# Altium footprint library RF.PcbLib: 28 footprints (part 2 of 2)
Each footprint in its own frame and in the unit in brackets; x right, y up, seen from the top. Pads: shape width x height; smd on the part's side, far side on the other; paste and mask are expansions set on the pad; w line width, h text height; cw(c..) or ccw(c..) is an arc to the next point about the centre after c.
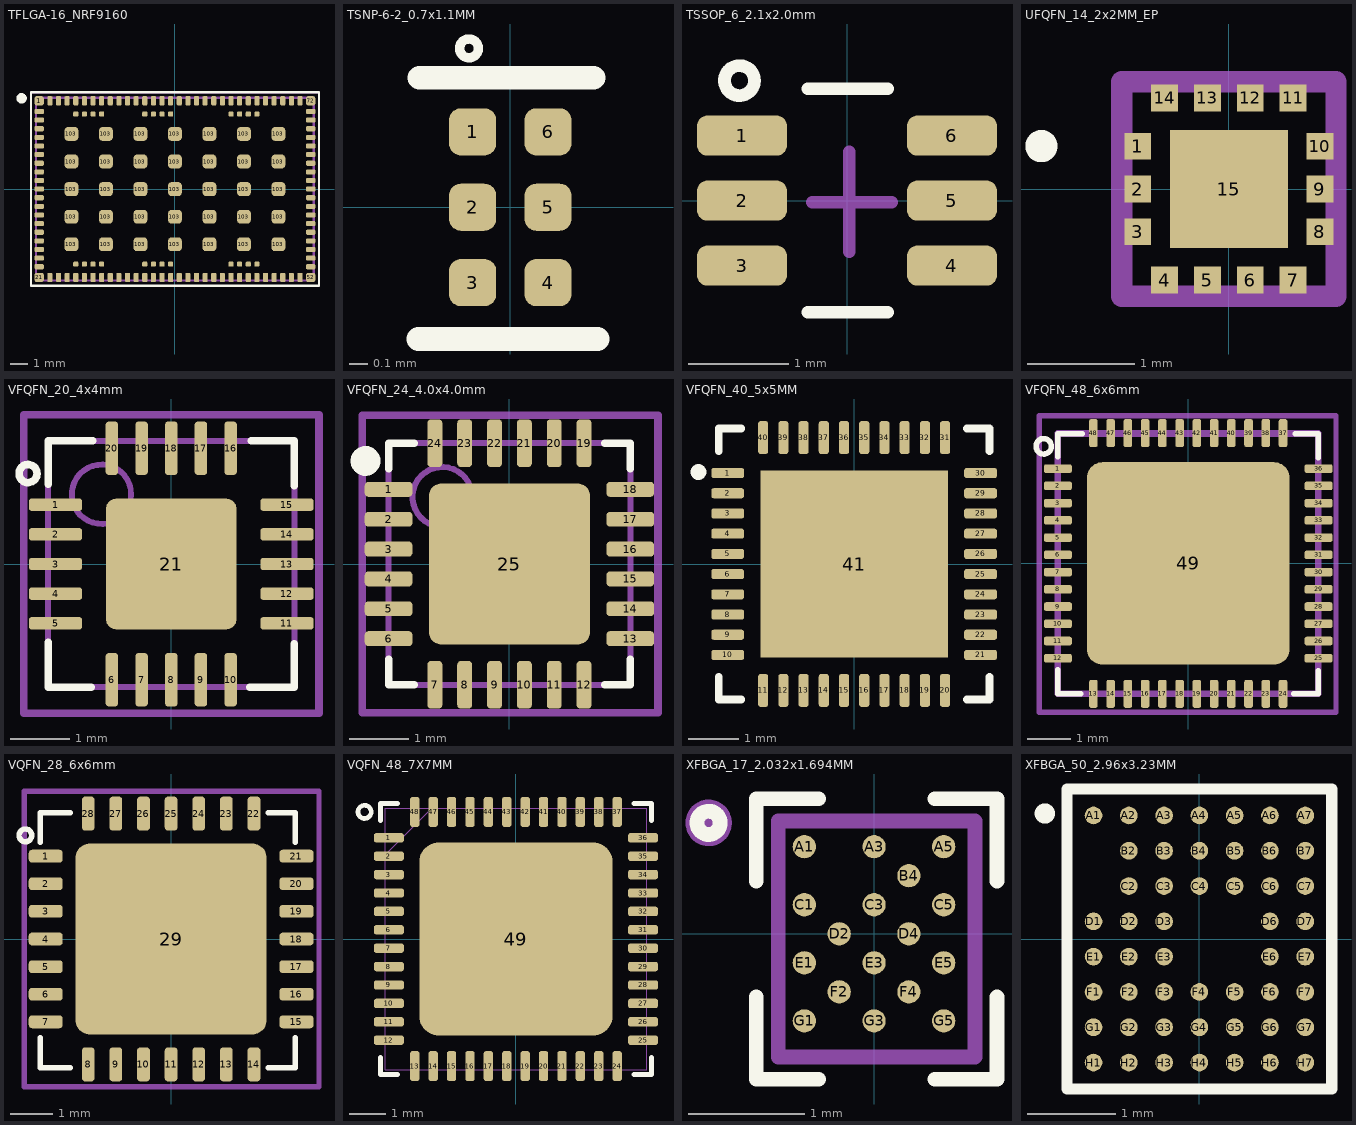
[diagram p1: the footprints below, top view; thin cyan lines are the x and y axes]

## TFLGA-16_NRF9160 [mm] "TFLGA-16_127-LGA (16x10.5) /20201016/N-A.Potosi"
pads (161):
  rrect50% 0.54x0.54 smd: 1(-7.87,5.12) 21(-7.87,-5.12) 52(7.87,-5.12) 72(7.87,5.12)
  rrect50% 0.54x0.3 smd: 2(-7.87,4.5) 3(-7.87,4) 4(-7.87,3.5) 5(-7.87,3) 6(-7.87,2.5) 7(-7.87,2) 8(-7.87,1.5) 9(-7.87,1) 10(-7.87,0.5) 11(-7.87,0) 12(-7.87,-0.5) 13(-7.87,-1) 14(-7.87,-1.5) 15(-7.87,-2) 16(-7.87,-2.5) 17(-7.87,-3) 18(-7.87,-3.5) 19(-7.87,-4) 20(-7.87,-4.5) 53(7.87,-4.5) 54(7.87,-4) 55(7.87,-3.5) 56(7.87,-3) 57(7.87,-2.5) 58(7.87,-2) 59(7.87,-1.5) 60(7.87,-1) 61(7.87,-0.5) 62(7.87,0) 63(7.87,0.5) 64(7.87,1) 65(7.87,1.5) 66(7.87,2) 67(7.87,2.5) 68(7.87,3) 69(7.87,3.5) 70(7.87,4) 71(7.87,4.5)
  rrect50% 0.3x0.54 smd: 22(-7.25,-5.12) 23(-6.75,-5.12) 24(-6.25,-5.12) 25(-5.75,-5.12) 26(-5.25,-5.12) 27(-4.75,-5.12) 28(-4.25,-5.12) 29(-3.75,-5.12) 30(-3.25,-5.12) 31(-2.75,-5.12) 32(-2.25,-5.12) 33(-1.75,-5.12) 34(-1.25,-5.12) 35(-0.75,-5.12) 36(-0.25,-5.12) 37(0.25,-5.12) 38(0.75,-5.12) 39(1.25,-5.12) 40(1.75,-5.12) 41(2.25,-5.12) 42(2.75,-5.12) 43(3.25,-5.12) 44(3.75,-5.12) 45(4.25,-5.12) 46(4.75,-5.12) 47(5.25,-5.12) 48(5.75,-5.12) 49(6.25,-5.12) 50(6.75,-5.12) 51(7.25,-5.12) 73(7.25,5.12) 74(6.75,5.12) 75(6.25,5.12) 76(5.75,5.12) 77(5.25,5.12) 78(4.75,5.12) 79(4.25,5.12) 80(3.75,5.12) 81(3.25,5.12) 82(2.75,5.12) 83(2.25,5.12) 84(1.75,5.12) 85(1.25,5.12) 86(0.75,5.12) 87(0.25,5.12) 88(-0.25,5.12) 89(-0.75,5.12) 90(-1.25,5.12) 91(-1.75,5.12) 92(-2.25,5.12) 93(-2.75,5.12) 94(-3.25,5.12) 95(-3.75,5.12) 96(-4.25,5.12) 97(-4.75,5.12) 98(-5.25,5.12) 99(-5.75,5.12) 100(-6.25,5.12) 101(-6.75,5.12) 102(-7.25,5.12)
  rrect50% 0.8x0.8 smd: 103(-6,-3.2) 103(-6,-1.6) 103(-6,0) 103(-6,1.6) 103(-6,3.2) 103(-4,-3.2) 103(-4,-1.6) 103(-4,0) 103(-4,1.6) 103(-4,3.2) 103(-2,-3.2) 103(-2,-1.6) 103(-2,0) 103(-2,1.6) 103(-2,3.2) 103(0,-3.2) 103(0,-1.6) 103(0,0) 103(0,1.6) 103(0,3.2) 103(2,-3.2) 103(2,-1.6) 103(2,0) 103(2,1.6) 103(2,3.2) 103(4,-3.2) 103(4,-1.6) 103(4,0) 103(4,1.6) 103(4,3.2) 103(6,-3.2) 103(6,-1.6) 103(6,0) 103(6,1.6) 103(6,3.2)
  rrect50% 0.3x0.3 smd: 104(-5.75,-4.35) 105(-5.25,-4.35) 106(-4.75,-4.35) 107(-4.25,-4.35) 108(-1.75,-4.35) 109(-1.25,-4.35) 110(-0.75,-4.35) 111(-0.25,-4.35) 112(3.25,-4.35) 113(3.75,-4.35) 114(4.25,-4.35) 115(4.75,-4.35) 116(4.75,4.35) 117(4.25,4.35) 118(3.75,4.35) 119(3.25,4.35) 120(-0.25,4.35) 121(-0.75,4.35) 122(-1.25,4.35) 123(-1.75,4.35) 124(-4.25,4.35) 125(-4.75,4.35) 126(-5.25,4.35) 127(-5.75,4.35)
Top Overlay:
  circle w0.3: c-8.89,5.265 r0.15
  lines w0.127: -8.35,-5.6 -8.35,5.613 8.35,5.613 8.35,-5.6 -8.35,-5.6
Mechanical 1:
  lines w0.127: -8.05,-5.3 -8.05,5.3 8.05,5.3 8.05,-5.3 -8.05,-5.3
Mechanical 15:
  lines w0.1: -8.35,-5.6 -8.35,5.6 8.35,5.6 8.35,-5.6 -8.35,-5.6
3D body "nRF9160_v4.step": height 1.2, standoff 0, extent -8.05,-5.3 8.05,5.3

## TSNP-6-2_0.7x1.1MM [mm] "TSNP-6-2/20210524/J-E.Pachon"
pads (6):
  rrect50% 0.25x0.25 smd: 1(-0.2,0.4) 2(-0.2,0) 3(-0.2,-0.4) 4(0.2,-0.4) 5(0.2,0) 6(0.2,0.4)
Top Overlay:
  circle w0.05: c-0.22,0.843 r0.05
  lines w0.127: -0.487,-0.699 0.463,-0.699 ; -0.482,0.687 0.44,0.687
3D body "User Library-6-XFDFN-1.STEP": height 0.38, standoff -0.02, extent -0.344,-0.545 0.356,0.555

## TSSOP_6_2.1x2.0mm [mm] "SC-88, SOT-363,SC-70-6 / 20190222 / N-A.Potosi"
height 1.1
pads (6):
  rrect50% 0.9x0.4 smd: 1(-1.05,0.65) 2(-1.05,0) 3(-1.05,-0.65) 4(1.05,-0.65) 5(1.05,0) 6(1.05,0.65)
Top Overlay:
  circle w0.127: c-1.075,1.2 r0.15
  lines w0.127: -0.39,-1.118 0.408,-1.118 ; -0.39,1.118 0.408,1.118
Mechanical 15:
  lines w0.127: -0.346,-0.015 0.449,-0.015 ; 0.024,-0.51 0.024,0.49
3D body "User Library-TSSOP-6 (SOT-23-6 PITCH 0_65).STEP": height 1.12, standoff 0.01, extent -1.083,-1.135 1.167,1.115

## UFQFN_14_2x2MM_EP [mm] "/ 20220615/ V-A.Patino"
pads (15):
  rect 0.25x0.25 smd: 1(-0.85,0.4) 2(-0.85,0) 3(-0.85,-0.4) 4(-0.6,-0.85) 5(-0.2,-0.85) 6(0.2,-0.85) 7(0.6,-0.85) 8(0.85,-0.4) 9(0.85,0) 10(0.85,0.4) 11(0.6,0.85) 12(0.2,0.85) 13(-0.2,0.85) 14(-0.6,0.85)
  rect 1.1x1.1 smd: 15(0,0)
Top Overlay:
  lines w0.2: -1.8,0.4 ccw(c-1.75,0.4) -1.7,0.4 ; -1.8,0.4 cw(c-1.75,0.4) -1.7,0.4 ; -1.8,0.4 ccw(c-1.75,0.4) -1.7,0.4
Mechanical 13:
  lines w0.2: -1,-1 1,-1 1,1 -1,1 -1,-1
3D body "BGS18MA14E6327XTSA1.stp": height 0.75, standoff 0, extent -1,-1 1,1

## VFQFN_20_4x4mm [mm] "/ 20190226 / N-A.Potosi"
pads (21):
  rrect50% 0.9x0.21 smd: 1(-1.95,1) 2(-1.95,0.5) 3(-1.95,0) 4(-1.95,-0.5) 5(-1.95,-1) 11(1.95,-1) 12(1.95,-0.5) 13(1.95,0) 14(1.95,0.5) 15(1.95,1)
  rrect50% 0.21x0.9 smd: 6(-1,-1.95) 7(-0.5,-1.95) 8(0,-1.95) 9(0.5,-1.95) 10(1,-1.95) 16(1,1.95) 17(0.5,1.95) 18(0,1.95) 19(-0.5,1.95) 20(-1,1.95)
  rrect15% 2.2x2.2 smd: 21(0,0)
Top Overlay:
  circle w0.127: c-2.413,1.524 r0.152
  lines w0.127: -2.075,-1.321 -2.075,-2.075 -1.346,-2.075 ; -2.075,1.346 -2.075,2.075 -1.321,2.075 ; 1.321,-2.075 2.075,-2.075 2.075,-1.346 ; 1.346,2.075 2.075,2.075 2.075,1.321
Mechanical 1:
  circle w0.1: c-1.175,1.175 r0.5
  lines w0.1: -2.075,-2.075 2.075,-2.075 2.075,2.075 -2.075,2.075 -2.075,-2.075
Mechanical 15:
  lines w0.127: -0.5,0 0.5,0 ; 0,-0.5 0,0.5 ; -2.489,-2.515 2.489,-2.515 2.489,2.515 -2.489,2.515 -2.489,-2.515
3D body: height 0.9, standoff 0.05, extent -2.075,-2.075 2.075,2.075

## VFQFN_24_4.0x4.0mm [mm] "24-VFQFN Exposed Pad / 20190226 / N-A.Potosi"
height 0.9
pads (25):
  rrect50% 0.8x0.25 smd: 1(-2.025,1.25) 2(-2.025,0.75) 3(-2.025,0.25) 4(-2.025,-0.25) 5(-2.025,-0.75) 6(-2.025,-1.25) 13(2.025,-1.25) 14(2.025,-0.75) 15(2.025,-0.25) 16(2.025,0.25) 17(2.025,0.75) 18(2.025,1.25)
  rrect50% 0.25x0.8 smd: 7(-1.25,-2.025) 8(-0.75,-2.025) 9(-0.25,-2.025) 10(0.25,-2.025) 11(0.75,-2.025) 12(1.25,-2.025) 19(1.25,2.025) 20(0.75,2.025) 21(0.25,2.025) 22(-0.25,2.025) 23(-0.75,2.025) 24(-1.25,2.025)
  rrect15% 2.7x2.7 smd: 25(0,0)
Top Overlay:
  circle w0.25: c-2.413,1.727 r0.125
  lines w0.127: -2.025,-1.6 -2.025,-2.025 -1.6,-2.025 ; -2.025,1.6 -2.025,2.025 -1.6,2.025 ; 1.6,-2.025 2.025,-2.025 2.025,-1.6 ; 1.6,2.025 2.025,2.025 2.025,1.6
Mechanical 13:
  circle w0.1: c-1.125,1.125 r0.5
  lines w0.1: -2.025,-2.025 2.025,-2.025 2.025,2.025 -2.025,2.025 -2.025,-2.025
Mechanical 15:
  lines w0.127: -0.5,0 0.5,0 ; 0,-0.5 0,0.5 ; -2.464,-2.489 2.489,-2.489 2.489,2.489 -2.464,2.489 -2.464,-2.489
3D body "QFN50P400X400X90_HS-25N.step": height 0.9, standoff 0, extent -2.035,-2.035 2.035,2.035

## VFQFN_40_5x5MM [mm] "20230725/ J.Jaramillo"
pads (41):
  rrect50% 0.65x0.2 smd paste+0 mask+0.005: 1(-2.502,1.8) 2(-2.502,1.4) 3(-2.502,1) 4(-2.502,0.6) 5(-2.502,0.2) 6(-2.502,-0.2) 7(-2.502,-0.6) 8(-2.502,-1) 9(-2.502,-1.4) 10(-2.502,-1.8) 21(2.502,-1.8) 22(2.502,-1.4) 23(2.502,-1) 24(2.502,-0.6) 25(2.502,-0.2) 26(2.502,0.2) 27(2.502,0.6) 28(2.502,1) 29(2.502,1.4)
  rrect50% 0.2x0.65 smd paste+0 mask+0.005: 11(-1.8,-2.502) 12(-1.4,-2.502) 13(-1,-2.502) 14(-0.6,-2.502) 15(-0.2,-2.502) 16(0.2,-2.502) 17(0.6,-2.502) 18(1,-2.502) 19(1.4,-2.502) 20(1.8,-2.502) 31(1.8,2.502) 32(1.4,2.502) 33(1,2.502) 34(0.6,2.502) 35(0.2,2.502) 36(-0.2,2.502) 37(-0.6,2.502) 38(-1,2.502) 39(-1.4,2.502) 40(-1.8,2.502)
  rrect50% 0.65x0.2 smd mask+0.005: 30(2.502,1.8)
  rect 3.708x3.708 smd: 41(0,0)
Top Overlay:
  circle w0.254: c-3.08,1.819 r0.029
  lines w0.152: -2.68,-2.234 -2.68,-2.68 -2.234,-2.68 ; -2.68,2.234 -2.68,2.68 -2.234,2.68 ; 2.234,-2.68 2.68,-2.68 2.68,-2.234 ; 2.234,2.68 2.68,2.68 2.68,2.234
Top Paste:
  region: -0.1,1.754 -1.754,1.754 -1.754,0.1 -0.1,0.1
  region: 1.754,1.754 0.1,1.754 0.1,0.1 1.754,0.1
  region: -0.1,-0.1 -1.754,-0.1 -1.754,-1.754 -0.1,-1.754
  region: 1.754,-0.1 0.1,-0.1 0.1,-1.754 1.754,-1.754
3D body "QFN40_5X5_DQ_NOR.step": height 0.89, standoff 0, extent -2.553,-2.553 2.553,2.553

## VFQFN_48_6x6mm [mm] "QFN48_6x6mm Exposed Pad/ 20190226 / N-A.Potosi"
pads (49):
  rrect50% 0.65x0.2 smd mask+0.042: 1(-3.025,2.2) 2(-3.025,1.8) 3(-3.025,1.4) 4(-3.025,1) 5(-3.025,0.6) 6(-3.025,0.2) 7(-3.025,-0.2) 8(-3.025,-0.6) 9(-3.025,-1) 10(-3.025,-1.4) 11(-3.025,-1.8) 12(-3.025,-2.2) 25(3.025,-2.2) 26(3.025,-1.8) 27(3.025,-1.4) 28(3.025,-1) 29(3.025,-0.6) 30(3.025,-0.2) 31(3.025,0.2) 32(3.025,0.6) 33(3.025,1) 34(3.025,1.4) 35(3.025,1.8) 36(3.025,2.2)
  rrect50% 0.2x0.65 smd mask+0.042: 13(-2.2,-3.025) 14(-1.8,-3.025) 15(-1.4,-3.025) 16(-1,-3.025) 17(-0.6,-3.025) 18(-0.2,-3.025) 19(0.2,-3.025) 20(0.6,-3.025) 21(1,-3.025) 22(1.4,-3.025) 23(1.8,-3.025) 24(2.2,-3.025) 37(2.2,3.025) 38(1.8,3.025) 39(1.4,3.025) 40(1,3.025) 41(0.6,3.025) 42(0.2,3.025) 43(-0.2,3.025) 44(-0.6,3.025) 45(-1,3.025) 46(-1.4,3.025) 47(-1.8,3.025) 48(-2.2,3.025)
  rrect15% 4.7x4.7 smd: 49(0,0)
Top Overlay:
  circle w0.127: c-3.353,2.718 r0.179
  lines w0.127: -3.025,-2.464 -3.025,-3.025 -2.489,-3.025 ; -3.025,2.479 -3.025,3.015 -2.464,3.015 ; 2.454,-3.025 3.015,-3.025 3.015,-2.489 ; 2.479,3.015 3.015,3.015 3.015,2.454
Mechanical 1:
  lines w0.152: 2.997,3.015 -3.025,3.015 -3.025,-3.025 3.015,-3.025 3.015,3.015
Mechanical 15:
  lines w0.127: -3.454,-3.454 3.429,-3.454 3.429,3.429 -3.454,3.429 -3.454,-3.454
3D body "IC-QFN48.step": height 0.88, standoff 0.02, extent -3.025,-3.025 3.015,3.015

## VQFN_28_6x6mm [mm] "VQFN28_28 Exposed Pad  / 20190226 / N-A.Potosi"
height 1
pads (29):
  rrect50% 0.8x0.3 smd: 1(-2.95,1.95) 2(-2.95,1.3) 3(-2.95,0.65) 4(-2.95,0) 5(-2.95,-0.65) 6(-2.95,-1.3) 7(-2.95,-1.95) 15(2.95,-1.95) 16(2.95,-1.3) 17(2.95,-0.65) 18(2.95,0) 19(2.95,0.65) 20(2.95,1.3) 21(2.95,1.95)
  rrect50% 0.3x0.8 smd: 8(-1.95,-2.95) 9(-1.3,-2.95) 10(-0.65,-2.95) 11(0,-2.95) 12(0.65,-2.95) 13(1.3,-2.95) 14(1.95,-2.95) 22(1.95,2.95) 23(1.3,2.95) 24(0.65,2.95) 25(0,2.95) 26(-0.65,2.95) 27(-1.3,2.95) 28(-1.95,2.95)
  rrect15% 4.5x4.5 smd: 29(0,0)
Top Overlay:
  circle w0.127: c-3.429,2.438 r0.15
  lines w0.127: -3.076,-2.325 -3.076,-3.025 -2.376,-3.025 ; -3.076,2.275 -3.076,2.975 -2.376,2.975 ; 2.286,-3.025 2.924,-3.025 2.924,-2.325 ; 2.286,2.975 2.924,2.975 2.924,2.275
Top Paste:
  region: 0.8,1.6 0.8,0.8 1.6,0.8 1.6,1.6
  region: -0.4,0.4 -0.4,-0.4 0.4,-0.4 0.4,0.4
  region: -1.6,0.4 -1.6,-0.4 -0.8,-0.4 -0.8,0.4
  region: -0.4,1.6 -0.4,0.8 0.4,0.8 0.4,1.6
  region: -1.6,1.6 -1.6,0.8 -0.8,0.8 -0.8,1.6
  region: 0.8,0.4 0.8,-0.4 1.6,-0.4 1.6,0.4
  region: -0.4,-0.8 -0.4,-1.6 0.4,-1.6 0.4,-0.8
  region: 0.8,-0.8 0.8,-1.6 1.6,-1.6 1.6,-0.8
  region: -1.6,-0.8 -1.6,-1.6 -0.8,-1.6 -0.8,-0.8
Mechanical 15:
  lines w0.127: -3.454,-3.48 -3.454,3.48 3.48,3.48 3.48,-3.48 -3.454,-3.48
3D body: height 1, standoff 0.05, extent -3.076,-3.025 2.924,2.975

## VQFN_48_7X7MM [mil] "48-VFQFN Exposed Pad/ 20210430 / V-A.Patino"
pads (49):
  rrect50% 32x10 smd: 1(-136,108.3) 2(-136,88.61) 3(-136,68.92) 4(-136,49.23) 5(-136,29.54) 6(-136,9.85) 7(-136,-9.85) 8(-136,-29.54) 9(-136,-49.23) 10(-136,-68.92) 11(-136,-88.61) 12(-136,-108.3) 25(136,-108.3) 26(136,-88.61) 27(136,-68.92) 28(136,-49.23) 29(136,-29.54) 30(136,-9.85) 31(136,9.85) 32(136,29.54) 33(136,49.23) 34(136,68.92) 35(136,88.61) 36(136,108.3)
  rrect50% 10x32 smd: 13(-108.3,-136) 14(-88.61,-136) 15(-68.92,-136) 16(-49.23,-136) 17(-29.54,-136) 18(-9.85,-136) 19(9.85,-136) 20(29.54,-136) 21(49.23,-136) 22(68.92,-136) 23(88.61,-136) 24(108.3,-136) 37(108.3,136) 38(88.61,136) 39(68.92,136) 40(49.23,136) 41(29.54,136) 42(9.85,136) 43(-9.85,136) 44(-29.54,136) 45(-49.23,136) 46(-68.92,136) 47(-88.61,136) 48(-108.3,136)
  rrect20% 207x207 smd: 49(0,0)
Top Overlay:
  circle w5: c-162,136 r7.06
  lines w5: -145,-126.39 -145,-145 -126.39,-145 ; -145,126.39 -145,145 -126.39,145 ; 126.39,-145 145,-145 145,-126.39 ; 126.39,145 145,145 145,126.39
Top Paste:
  region: -55.69,99.56 -99.56,99.56 -99.56,55.69 -55.69,55.69
  region: -55.69,47.81 -99.56,47.81 -99.56,3.94 -55.69,3.94
  region: -55.69,-3.94 -99.56,-3.94 -99.56,-47.81 -55.69,-47.81
  region: -55.69,-55.69 -99.56,-55.69 -99.56,-99.56 -55.69,-99.56
  region: -3.94,99.56 -47.81,99.56 -47.81,55.69 -3.94,55.69
  region: -3.94,47.81 -47.81,47.81 -47.81,3.94 -3.94,3.94
  region: -3.94,-3.94 -47.81,-3.94 -47.81,-47.81 -3.94,-47.81
  region: -3.94,-55.69 -47.81,-55.69 -47.81,-99.56 -3.94,-99.56
  region: 47.81,99.56 3.94,99.56 3.94,55.69 47.81,55.69
  region: 47.81,47.81 3.94,47.81 3.94,3.94 47.81,3.94
  region: 47.81,-3.94 3.94,-3.94 3.94,-47.81 47.81,-47.81
  region: 47.81,-55.69 3.94,-55.69 3.94,-99.56 47.81,-99.56
  region: 99.56,99.56 55.69,99.56 55.69,55.69 99.56,55.69
  region: 99.56,47.81 55.69,47.81 55.69,3.94 99.56,3.94
  region: 99.56,-3.94 55.69,-3.94 55.69,-47.81 99.56,-47.81
  region: 99.56,-55.69 55.69,-55.69 55.69,-99.56 99.56,-99.56
Mechanical 1:
  lines w1: -140,90 -90,140 ; -140,-140 -140,140 140,140 140,-140 -140,-140 ; -140,-114.3 -140,-102.3 -140,-114.3 ; -140,-94.61 -140,-82.61 -140,-94.61 ; -140,-74.92 -140,-62.91 -140,-74.92 ; -140,-55.23 -140,-43.23 -140,-55.23 ; -140,-35.53 -140,-23.54 -140,-35.53 ; -140,-15.85 -140,-3.85 -140,-15.85 ; -140,3.85 -140,15.85 -140,3.85 ; -140,23.54 -140,35.53 -140,23.54 ; -140,43.23 -140,55.23 -140,43.23 ; -140,62.91 -140,74.92 -140,62.91 ; -140,82.61 -140,94.61 -140,82.61 ; -140,102.3 -140,114.3 -140,102.3 ; -114.3,-140 -102.3,-140 -114.3,-140 ; -114.3,140 -102.3,140 -114.3,140 ; -94.61,-140 -82.61,-140 -94.61,-140 ; -94.61,140 -82.61,140 -94.61,140 ; -74.92,-140 -62.91,-140 -74.92,-140 ; -74.92,140 -62.91,140 -74.92,140 ; -55.23,-140 -43.23,-140 -55.23,-140 ; -55.23,140 -43.23,140 -55.23,140 ; -35.53,-140 -23.54,-140 -35.53,-140 ; -35.53,140 -23.54,140 -35.53,140 ; -15.85,-140 -3.85,-140 -15.85,-140 ; -15.85,140 -3.85,140 -15.85,140 ; 3.85,-140 15.85,-140 3.85,-140 ; 3.85,140 15.85,140 3.85,140 ; 23.54,-140 35.53,-140 23.54,-140 ; 23.54,140 35.53,140 23.54,140 ; 43.23,-140 55.23,-140 43.23,-140 ; 43.23,140 55.23,140 43.23,140 ; 62.91,-140 74.92,-140 62.91,-140 ; 62.91,140 74.92,140 62.91,140 ; 82.61,-140 94.61,-140 82.61,-140 ; 82.61,140 94.61,140 82.61,140 ; 102.3,-140 114.3,-140 102.3,-140 ; 102.3,140 114.3,140 102.3,140 ; 140,-114.3 140,-102.3 140,-114.3 ; 140,-94.61 140,-82.61 140,-94.61 ; 140,-74.92 140,-62.91 140,-74.92 ; 140,-55.23 140,-43.23 140,-55.23 ; 140,-35.53 140,-23.54 140,-35.53 ; 140,-15.85 140,-3.85 140,-15.85 ; 140,3.85 140,15.85 140,3.85 ; 140,23.54 140,35.53 140,23.54 ; 140,43.23 140,55.23 140,43.23 ; 140,62.91 140,74.92 140,62.91 ; 140,82.61 140,94.61 140,82.61 ; 140,102.3 140,114.3 140,102.3
3D body "RGZ0048A.stp": height 39.37, standoff 0, extent -137.79,-137.79 137.8,137.8
3D body: height 10, standoff 0, extent 0,0 10,10

## XFBGA_17_2.032x1.694MM [mm] "17-WLCSP/ 20210524 / J-E.Pachon"
pads (17):
  round 0.2 smd paste-1 mask+0: A1(-0.6,0.75) A3(0,0.75) A5(0.6,0.75) B4(0.3,0.5) C1(-0.6,0.25) C3(0,0.25) C5(0.6,0.25) D2(-0.3,0) D4(0.3,0) E1(-0.6,-0.25) E3(0,-0.25) E5(0.6,-0.25) F2(-0.3,-0.5) F4(0.3,-0.5) G1(-0.6,-0.75) G3(0,-0.75) G5(0.6,-0.75)
Top Overlay:
  circle w0.127: c-1.424,0.955 r0.1
  lines w0.127: -1.013,-0.545 -1.013,-1.253 -0.477,-1.253 ; -1.013,0.455 -1.013,1.164 -0.477,1.164 ; 0.523,-1.253 1.059,-1.253 1.059,-0.545 ; 0.523,1.164 1.059,1.164 1.059,0.455
Top Paste:
  circle w0.09: c-0.3,-0.5 r0.045
  circle w0.09: c-0.3,0 r0.045
  circle w0.09: c0.3,-0.5 r0.045
  circle w0.09: c0.3,0 r0.045
  circle w0.09: c0.3,0.5 r0.045
  circle w0.09: c-0.6,-0.75 r0.045
  circle w0.09: c0,-0.75 r0.045
  circle w0.09: c-0.6,-0.25 r0.045
  circle w0.09: c0,-0.25 r0.045
  circle w0.09: c-0.6,0.25 r0.045
  circle w0.09: c0,0.25 r0.045
  circle w0.09: c0.6,-0.75 r0.045
  circle w0.09: c0.6,-0.25 r0.045
  circle w0.09: c0.6,0.25 r0.045
  circle w0.09: c0.6,0.75 r0.045
  circle w0.09: c0,0.75 r0.045
  circle w0.09: c-0.6,0.75 r0.045
Top Solder:
  circle w0.122: c-0.3,-0.5 r0.061
  circle w0.122: c0.3,-0.5 r0.061
  circle w0.122: c0.3,0.5 r0.061
  circle w0.122: c0.3,0 r0.061
  circle w0.122: c-0.6,-0.75 r0.061
  circle w0.122: c0,-0.75 r0.061
  circle w0.122: c-0.6,-0.25 r0.061
  circle w0.122: c0,-0.25 r0.061
  circle w0.122: c-0.6,0.25 r0.061
  circle w0.122: c0,0.25 r0.061
  circle w0.122: c0.6,-0.75 r0.061
  circle w0.122: c0.6,-0.25 r0.061
  circle w0.122: c0.6,0.25 r0.061
  circle w0.122: c0.6,0.75 r0.061
  circle w0.122: c0,0.75 r0.061
  circle w0.122: c-0.6,0.75 r0.061
  circle w0.122: c-0.3,0 r0.061
Mechanical 1:
  circle w0.2: c-1.424,0.955 r0.1
  lines w0.127: -0.824,-1.061 -0.824,0.971 0.87,0.971 0.87,-1.061 -0.824,-1.061
3D body "DA14531-00000OG2--3DModel-STEP-56544.STEP": height 0.23, standoff -0.15, extent -0.825,-1.055 0.869,0.977

## XFBGA_50_2.96x3.23MM [mm] "WLCSP, 50-WLCSP"
pads (50):
  round 0.2 smd mask+0.025: A1(-1.2,1.4) A2(-0.8,1.4) A3(-0.4,1.4) A4(0,1.4) A5(0.4,1.4) A6(0.8,1.4) A7(1.2,1.4) B2(-0.8,1) B3(-0.4,1) B4(0,1) B5(0.4,1) B6(0.8,1) B7(1.2,1) C2(-0.8,0.6) C3(-0.4,0.6) C4(0,0.6) C5(0.4,0.6) C6(0.8,0.6) C7(1.2,0.6) D1(-1.2,0.2) D2(-0.8,0.2) D3(-0.4,0.2) D6(0.8,0.2) D7(1.2,0.2) E1(-1.2,-0.2) E2(-0.8,-0.2) E3(-0.4,-0.2) E6(0.8,-0.2) E7(1.2,-0.2) F1(-1.2,-0.6) F2(-0.8,-0.6) F3(-0.4,-0.6) F4(0,-0.6) F5(0.4,-0.6) F6(0.8,-0.6) F7(1.2,-0.6) G1(-1.2,-1) G2(-0.8,-1) G3(-0.4,-1) G4(0,-1) G5(0.4,-1) G6(0.8,-1) G7(1.2,-1) H1(-1.2,-1.4) H2(-0.8,-1.4) H3(-0.4,-1.4) H4(0,-1.4) H5(0.4,-1.4) H6(0.8,-1.4) H7(1.2,-1.4)
Top Overlay:
  circle w0.127: c-1.753,1.422 r0.051
  lines w0.127: -1.5,-1.7 -1.5,1.7 1.5,1.7 1.5,-1.7 -1.5,-1.7
Top Solder:
  circle w0: c1.2,1 r0.17
  circle w0: c0.8,1 r0.17
  circle w0: c0.4,1 r0.17
  circle w0: c0,1 r0.17
  circle w0: c-0.4,1 r0.17
  circle w0: c-0.8,1 r0.17
  circle w0: c1.2,0.6 r0.17
  circle w0: c0.8,0.6 r0.17
  circle w0: c0.4,0.6 r0.17
  circle w0: c0,0.6 r0.17
  circle w0: c-0.4,0.6 r0.17
  circle w0: c-0.8,0.6 r0.17
  circle w0: c1.2,0.2 r0.17
  circle w0: c0.8,0.2 r0.17
  circle w0: c-0.4,0.2 r0.17
  circle w0: c-0.8,0.2 r0.17
  circle w0: c-1.2,0.2 r0.17
  circle w0: c1.2,-0.2 r0.17
  circle w0: c0.8,-0.2 r0.17
  circle w0: c-0.4,-0.2 r0.17
  circle w0: c-0.8,-0.2 r0.17
  circle w0: c-1.2,-0.2 r0.17
  circle w0: c1.2,-0.6 r0.17
  circle w0: c0.8,-0.6 r0.17
  circle w0: c0.4,-0.6 r0.17
  circle w0: c0,-0.6 r0.17
  circle w0: c-0.4,-0.6 r0.17
  circle w0: c-0.8,-0.6 r0.17
  circle w0: c-1.2,-0.6 r0.17
  circle w0: c1.2,-1 r0.17
  circle w0: c0.8,-1 r0.17
  circle w0: c0.4,-1 r0.17
  circle w0: c0,-1 r0.17
  circle w0: c-0.4,-1 r0.17
  circle w0: c-0.8,-1 r0.17
  circle w0: c-1.2,-1 r0.17
  circle w0: c1.2,-1.4 r0.17
  circle w0: c0.8,-1.4 r0.17
  circle w0: c0.4,-1.4 r0.17
  circle w0: c0,-1.4 r0.17
  circle w0: c-0.4,-1.4 r0.17
  circle w0: c-0.8,-1.4 r0.17
  circle w0: c-1.2,-1.4 r0.17
  circle w0: c1.2,1.4 r0.17
  circle w0: c0.8,1.4 r0.17
  circle w0: c0.4,1.4 r0.17
  circle w0: c0,1.4 r0.17
  circle w0: c-0.4,1.4 r0.17
  circle w0: c-0.8,1.4 r0.17
  circle w0: c-1.2,1.4 r0.17
3D body "NRF52832-CIAA-R--3DModel-STEP-56544.STEP": height 0.26, standoff -0.14, extent -1.456,-1.613 1.5,1.613